# Altium footprint library 1x2 vertical (43650-0218).PcbLib: 1 footprints
Each footprint in its own frame and in the unit in brackets; x right, y up, seen from the top. Pads: shape width x height; smd on the part's side, far side on the other; paste and mask are expansions set on the pad; w line width, h text height; cw(c..) or ccw(c..) is an arc to the next point about the centre after c.
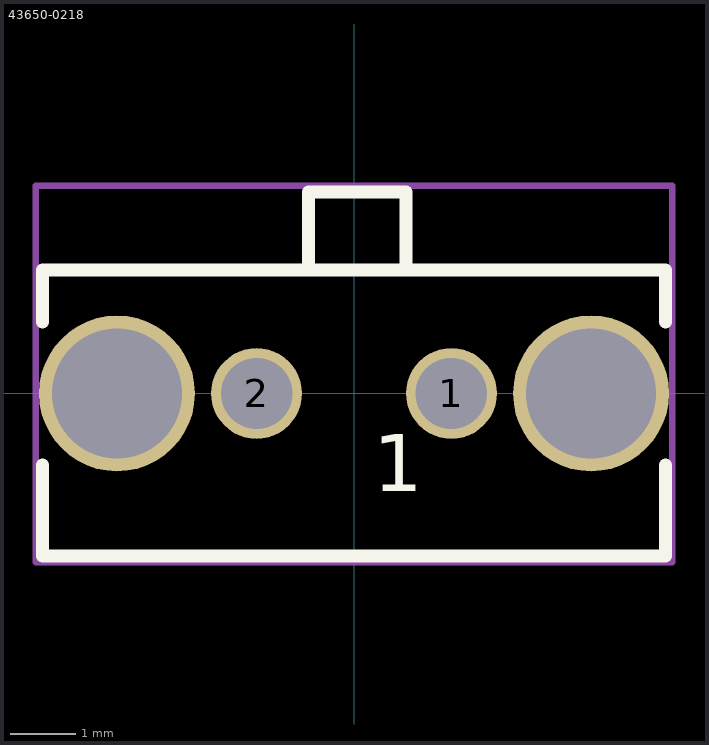
[diagram p0: the footprint, top view; thin cyan lines are the x and y axes]

## 43650-0218 [mm] "MOLEX - 43650-0218 - HEADER, 3.0MM, 2WAY"
pads (4):
  round 1.4 hole 1.1: 1(1.5,0) 2(-1.5,0)
  round 2.4 hole 2: ""(-3.65,0) ""(3.65,0)
Top Overlay:
  lines w0.2: -4.8,-1.1 -4.8,-2.5 4.8,-2.5 4.8,-1.1 ; -4.8,1.1 -4.8,1.9 -1.7,1.9 -0.7,1.9 ; 4.8,1.1 4.8,1.9 0.8,1.9 ; -0.7,1.9 0.8,1.9 ; -0.7,1.9 -0.7,3.1 0.4,3.1 0.8,3.1 0.8,1.9
  text "1" at 0.3,-1.8 h1.5
Mechanical 15:
  lines w0.1: -4.9,-2.6 -4.9,3.2 4.9,3.2 4.9,-2.6 -4.9,-2.6
3D body: height 9.95, standoff -3.13, extent -4.825,-2.475 4.825,3.095